# Altium footprint library lab6.PcbLib: 4 footprints
Each footprint in its own frame and in the unit in brackets; x right, y up, seen from the top. Pads: shape width x height; smd on the part's side, far side on the other; paste and mask are expansions set on the pad; w line width, h text height; cw(c..) or ccw(c..) is an arc to the next point about the centre after c.
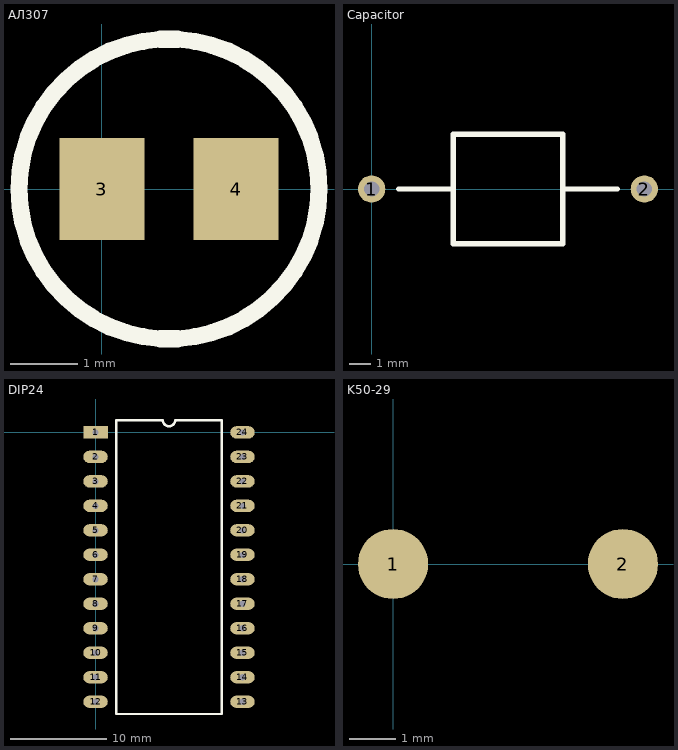
[diagram p0: the footprints below, top view; thin cyan lines are the x and y axes]

## AЛ307 [mil]
pads (2):
  rect 50x60 smd: 3(0,0) 4(78.74,0)
Top Overlay:
  circle w10: c39.37,0 r88.03

## Capacitor [mil]
pads (2):
  round 50 hole 28: 1(0,0) 2(500,0)
Top Overlay:
  lines w10: 50,0 150,0 ; 350,0 450,0 ; 150,0 150,100 350,100 350,-100 150,-100 150,0

## DIP24 [mil]
pads (24):
  rect 100x50 hole 25: 1(0,0)
  oval 100x50 hole 25: 2(0,-100) 3(0,-200) 4(0,-300) 5(0,-400) 6(0,-500) 7(0,-600) 8(0,-700) 9(0,-800) 10(0,-900) 11(0,-1000) 12(0,-1100) 13(600,-1100) 14(600,-1000) 15(600,-900) 16(600,-800) 17(600,-700) 18(600,-600) 19(600,-500) 20(600,-400) 21(600,-300) 22(600,-200) 23(600,-100) 24(600,0)
Top Overlay:
  lines w10: 85,-1150 515,-1150 515,50 325,50 cw(c300,50) 275,50 85,50 85,-1150

## K50-29 [mil]
pads (2):
  round 60 smd: 1(0,0) 2(196.85,0)